# EAGLE library part AD22285-R2 (library zortness)
AD22285-R2 Dual Axis 55g Analog Accelerometer Data Sheet <http://www.analog.com/static/imported-files/data_sheets/ADXL278.pdf> Newark Part #19M8806 <http://www.newark.com/analog-devices/ad22285-r2/ic-2-axis-accelerometer-55g-lcc/dp/19M8806?in_merch=Popular%20Sensors>
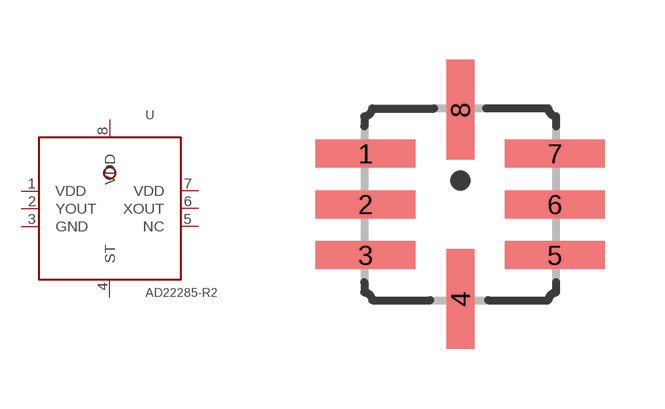
[diagram p3: symbol with the pads of LCC8; footprint LCC8]

Designator prefix U

## AD22285-R2  [LCC8]
1  VDD  pwr
2  YOUT  out
3  GND  pwr
4  ST  in
5  NC  nc
6  XOUT  out
7  VDD  pwr
8  VDD  pwr

## Footprint LCC8 (pad centres in mm)
8-Terminal Ceramic Leadless Chip Carrier [LCC] (E-8) Source: www.analog.com/UploadedFiles/Packages/189346426E_8.pdf
smd 2.5 x 0.7: 1 -2.367,1.27; 2 -2.367,0; 3 -2.367,-1.27; 5 2.367,-1.27; 6 2.367,0; 7 2.367,1.27
smd 0.7 x 2.5: 4 0,-2.367; 8 0,2.367